# Altium schematic symbol library OPT3001IDNPRQ1.SchLib: 1 symbol
Pins are listed as number, name and electrical type; pins without a type are passive.

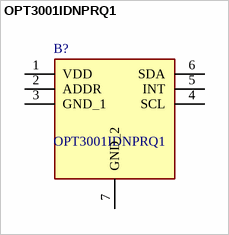
[diagram p0: symbol OPT3001IDNPRQ1]

## OPT3001IDNPRQ1
designator B?
Ambient Light Sensors Automotive Digital Ambient Light Sensor (ALS) With High-Precision Human-Eye Response 6-USON -40 to 85; Manufacturer_Name: Texas Instruments; Geometry.Height: 0.65mm; Manufacturer_Part_Number: OPT3001IDNPRQ1; Mouser Part Number: 595-OPT3001IDNPRQ1; Mouser Price/Stock: https://www.mouser.co.uk/ProductDetail/Texas-Instruments/OPT3001IDNPRQ1?qs=u4fy%2FsgLU9PFQBSq8%2FiUeQ%3D%3D; Arrow Part Number: OPT3001IDNPRQ1; Arrow Price/Stock: https://www.arrow.com/en/products/opt3001idnprq1/texas-instruments?utm_currency=USD&region=nac; Datasheet Link: http://www.ti.com/lit/ds/symlink/opt3001-q1.pdf
footprint SON65P200X200X65-7N-D
pins: 1 VDD, 2 ADDR, 3 GND_1, 4 SCL, 5 INT, 6 SDA, 7 GND_2